# EAGLE library part BME280 (library wntrmute)
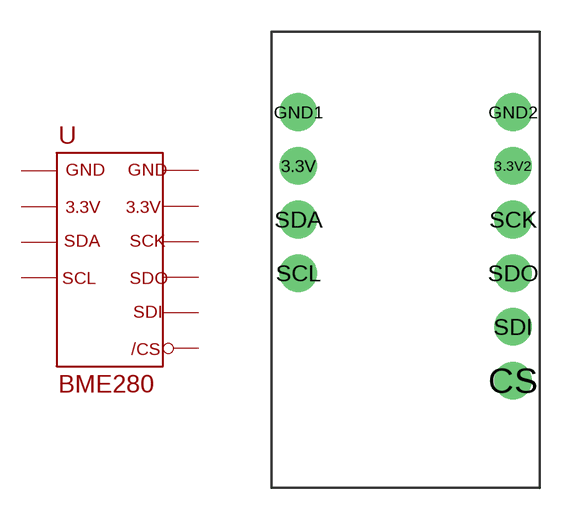
[diagram p1: symbol with the pads of BME280; footprint BME280]

Designator prefix U

## BME280  [BME280]
3.3V  3.3V  pwr
3.3V2  3.3V2  pwr
CS  CS
GND1  GND  pwr
GND2  GND2  pwr
SCK  SCK
SCL  SCL
SDA  SDA
SDI  SDI
SDO  SDO

## Footprint BME280 (pad centres in mm)
drill 1.016 pad 1.778: 3.3V 1.27,15.24; 3.3V2 11.43,15.24; CS 11.43,5.08; GND1 1.27,17.78; GND2 11.43,17.78; SCK 11.43,12.7; SCL 1.27,10.16; SDA 1.27,12.7; SDI 11.43,7.62; SDO 11.43,10.16